# EAGLE library part ?M09B-SR (library con-jst)
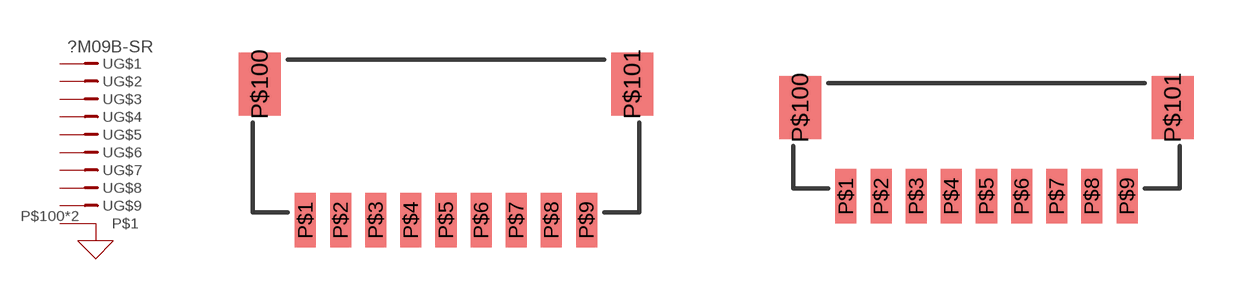
[diagram p28: symbol with the pads of SM09B-SR; footprints SM09B-SR, BM09B-SR]

Designator prefix -; gates G$1=PM-VN G$2=PM-N G$3=PM-N G$4=PM-N G$5=PM-N G$6=PM-N G$7=PM-N G$8=PM-N G$9=PM-N G$10=FRAME

## SM09B-SR  [SM09B-SR]
P$1  G$1:1  pas
P$2  G$2:1  pas
P$3  G$3:1  pas
P$4  G$4:1  pas
P$5  G$5:1  pas
P$6  G$6:1  pas
P$7  G$7:1  pas
P$8  G$8:1  pas
P$9  G$9:1  pas
P$100  G$10:P$1
P$101  G$10:P$1

## BM09B-SR  [BM09B-SR]
Pads as for SM09B-SR

## Footprint SM09B-SR (pad centres in mm)
smd 0.6 x 1.55: P$1 -4,-4.775; P$2 -3,-4.775; P$3 -2,-4.775; P$4 -1,-4.775; P$5 0,-4.775; P$6 1,-4.775; P$7 2,-4.775; P$8 3,-4.775; P$9 4,-4.775
smd 1.2 x 1.8: P$100 -5.3,-0.9; P$101 5.3,-0.9

## Footprint BM09B-SR (pad centres in mm)
smd 0.6 x 1.55: P$1 -4,-3.425; P$2 -3,-3.425; P$3 -2,-3.425; P$4 -1,-3.425; P$5 0,-3.425; P$6 1,-3.425; P$7 2,-3.425; P$8 3,-3.425; P$9 4,-3.425
smd 1.2 x 1.8: P$100 -5.3,-0.9; P$101 5.3,-0.9